# EAGLE library part STM32L011K4 (library CASE-MCU)
STM32L011K4, LQFP-32 Description: STM32L011K4 from STMicroelectronics L0 series (Arm Cortex M0+), LQFP-32 package Links: Datasheet <https://www.st.com/resource/en/datasheet/stm32l011k4.pdf> Website <https://www.st.com/en/microcontrollers/stm32l011k4.html> NUCLEO-L011K4 <https://www.st.com/en/evaluation-tools/nucleo-l011k4.html>
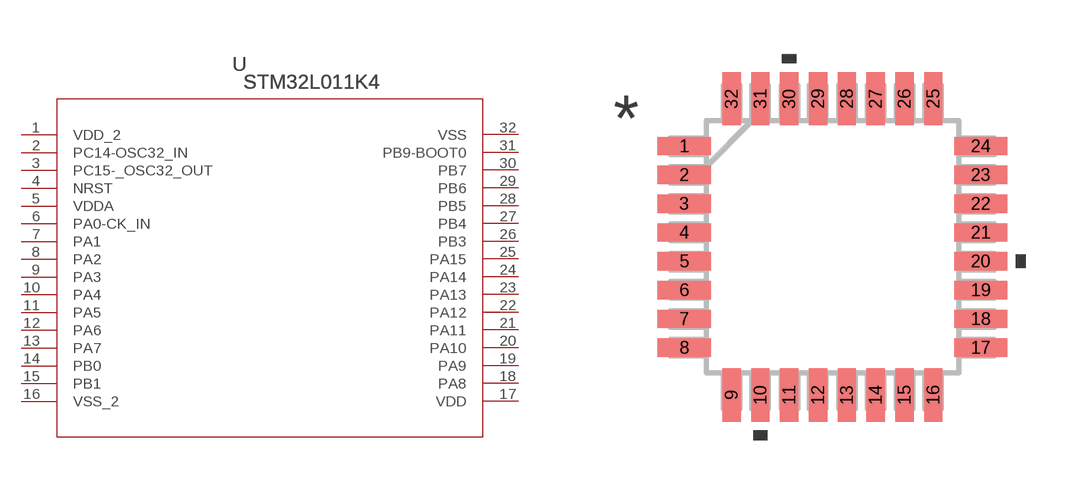
[diagram p4: symbol with the pads of LQFP-32; footprint LQFP-32]

Designator prefix U

## STM32L011K4  [LQFP-32]
1  VDD_2  pwr
2  PC14-OSC32_IN
3  PC15-_OSC32_OUT
4  NRST
5  VDDA  pwr
6  PA0-CK_IN
7  PA1
8  PA2
9  PA3
10  PA4
11  PA5
12  PA6
13  PA7
14  PB0
15  PB1
16  VSS_2  pwr
17  VDD  pwr
18  PA8
19  PA9
20  PA10
21  PA11
22  PA12
23  PA13
24  PA14
25  PA15
26  PB3
27  PB4
28  PB5
29  PB6
30  PB7
31  PB9-BOOT0  in
32  VSS  pwr

## Footprint LQFP-32 (pad centres in mm)
smd 1.473 x 0.508: 1 -4.115,2.8; 2 -4.115,2; 3 -4.115,1.2; 4 -4.115,0.4; 5 -4.115,-0.4; 6 -4.115,-1.2; 7 -4.115,-2; 8 -4.115,-2.8; 17 4.115,-2.8; 18 4.115,-2; 19 4.115,-1.2; 20 4.115,-0.4; 21 4.115,0.4; 22 4.115,1.2; 23 4.115,2; 24 4.115,2.8
smd 0.508 x 1.473: 9 -2.8,-4.115; 10 -2,-4.115; 11 -1.2,-4.115; 12 -0.4,-4.115; 13 0.4,-4.115; 14 1.2,-4.115; 15 2,-4.115; 16 2.8,-4.115; 25 2.8,4.115; 26 2,4.115; 27 1.2,4.115; 28 0.4,4.115; 29 -0.4,4.115; 30 -1.2,4.115; 31 -2,4.115; 32 -2.8,4.115